# EAGLE library part USB-DEVICE (library chipdesign2016)
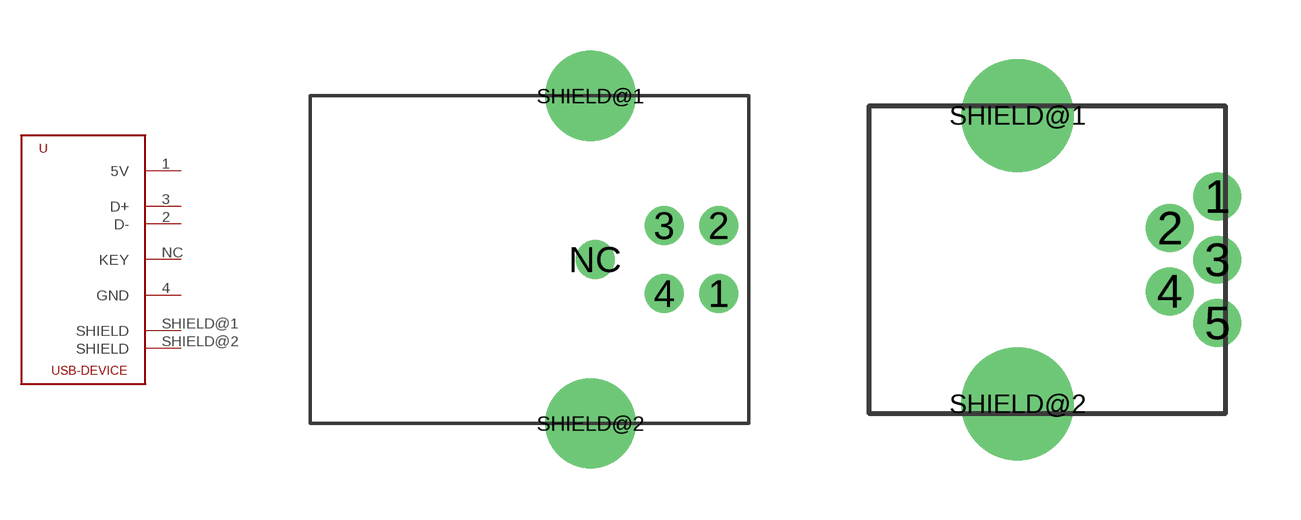
[diagram p6: symbol with the pads of USB-B; footprints USB-B, USB-MINI]

Designator prefix -

## USB-DEVICE  [USB-B]
1  5V  pwr
2  D-
3  D+
4  GND  pwr
NC  KEY  pas
SHIELD@1  SHIELD  pas
SHIELD@2  SHIELD  pas

## USB-DEVICE'MINI'  [USB-MINI]
1  5V  pwr
2  D-
3  D+
4  KEY  pas
5  GND  pwr
SHIELD@1  SHIELD  pas
SHIELD@2  SHIELD  pas

## Footprint USB-B (pad centres in mm)
drill 0.92: 1 2,-1.25; 2 2,1.25; 3 0,1.25; 4 0,-1.25; NC -2.54,0
drill 2.3: SHIELD@1 -2.71,6.02; SHIELD@2 -2.71,-6.02

## Footprint USB-MINI (pad centres in mm)
drill 0.7: 1 0,1.6; 2 -1.2,0.8; 3 0,0; 4 -1.2,-0.8; 5 0,-1.6
drill 1.9: SHIELD@1 -5.05,3.65; SHIELD@2 -5.05,-3.65